# Altium schematic symbol library MAX6576.SchLib: 1 symbol
Pins are listed as number, name and electrical type; pins without a type are passive.

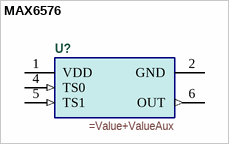
[diagram p0: symbol MAX6576]

## MAX6576
designator U?
=Description
pins: 1 VDD (power), 2 GND (power), 3 NC hidden, 4 TS0 (in), 5 TS1 (in), 6 OUT (out)